# Altium schematic symbol library SCH - POWER - LINEAR VREG - TI TPS7A6301-Q1PWP.SchLib: 1 symbol
Pins are listed as number, name and electrical type; pins without a type are passive.

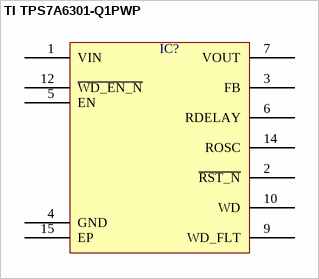
[diagram p0: symbol TI TPS7A6301-Q1PWP]

## TI TPS7A6301-Q1PWP
designator IC?  (value not drawn)
pins: 1 VIN, 2 ~{RST_N}, 3 FB, 4 GND, 5 EN, 6 RDELAY, 7 VOUT, 9 WD_FLT, 10 WD, 12 ~{WD_EN_N}, 14 ROSC, 15 EP